# Altium integrated library TI Data Converters Digital to Analog Converter.IntLib: 1533 symbols (part 93 of 99)
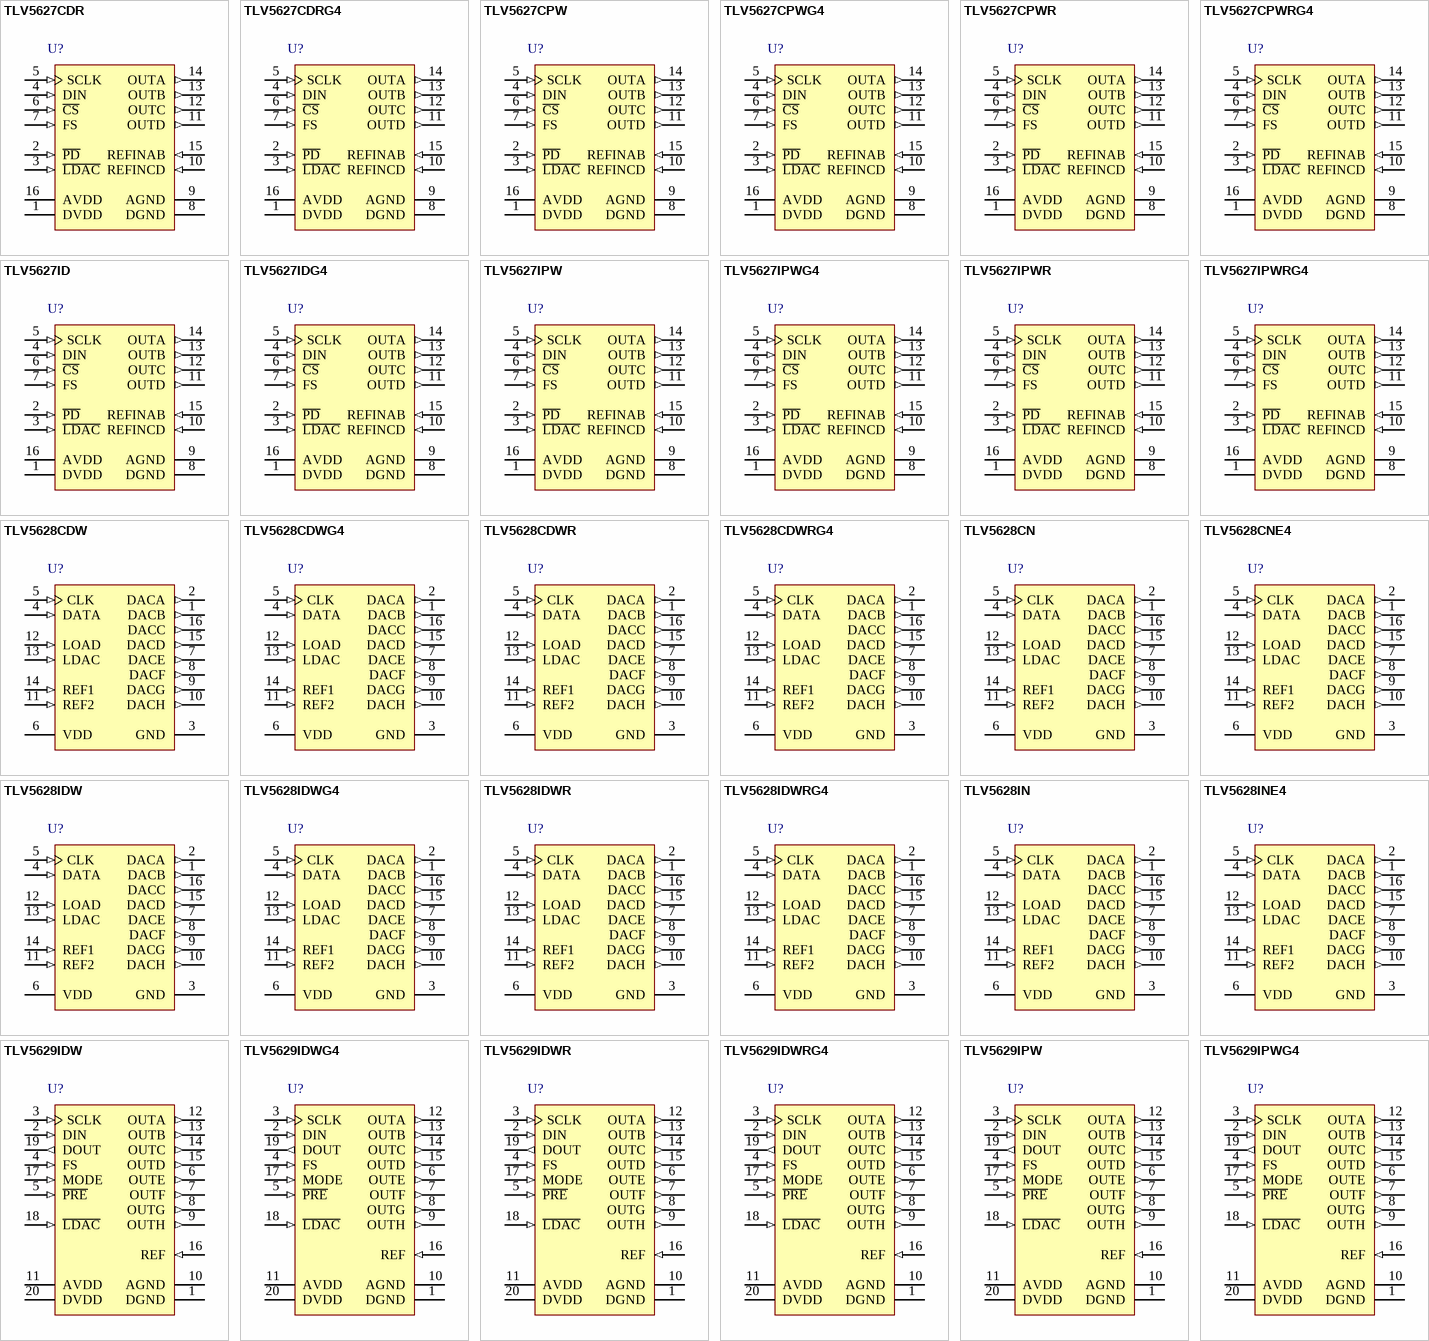
[diagram p165: symbols TLV5627CDR to TLV5629IPWG4]

## TLV5628IDW
designator U?
8-Bit, 10 us Octal DAC, Serial Input, Programmable 1 x or 2 x Output, Low Power, -40 to 85 degC, 16-pin SOIC (DW16), Green (RoHS & no Sb/Br); Manufacturer: Texas Instruments; PartNumber: TLV5628IDW; DAC Channels: 8; DNL(Max)(+/-LSB): 0.9; INL(Max)(+/-LSB): 1; Interface: Serial SPI; Power Consumption(Typ)(mW): 12; Settling Time(us): 10; SubFamily: Precision DAC (=<10MSPS); DatasheetVersion: SLAS108A; PackageVersion: 4040000-2/G, 01/2011; PackageReference: DW16; PackageDescription: 16-Pin Plastic Small Outline, Body 10.30 x 7.50 mm, Pitch 1.27 mm; Supplier 1: Digi-Key; Supplier Part Number 1: 296-3061-5-ND; Supplier 2: Newark; Supplier Part Number 2: 76C8967; Supplier 3: Mouser; Supplier Part Number 3: 595-TLV5628IDW; Eco-Plan: Green (RoHS & no Sb/Br); Resolution(Bits): 8; Mounting Technology: Surface Mount; Code_JEDEC: MS-013; ComponentLink1Description: Manufacturer URL; ComponentLink1URL: http://www.ti.com/; ComponentLink2Description: Datasheet; ComponentLink2URL: http://www.ti.com/general/docs/lit/getliterature.tsp?genericPartNumber=TLV5628&fileType=pdf; ComponentLink3Description: Package Specification; ComponentLink3URL: http://www.ti.com/litv/pdf/msoi003g
footprint TI-DW16_N (SOIC, 16-Leads, Body 10.3x7.5mm, Pitch 1.27mm, IPC Medium Density)
footprint TI-DW16_L (SOIC, 16-Leads, Body 10.3x7.5mm, Pitch 1.27mm, IPC High Density)
footprint TI-DW16_M (SOIC, 16-Leads, Body 10.3x7.5mm, Pitch 1.27mm, IPC Low Density)
pins: 1 DACB (out) "DACB analog output", 2 DACA (out) "DACA analog output", 3 GND (power) "Ground return and reference terminal", 4 DATA (in) "Serial-interface digital data input", 5 CLK (in) "Serial-interface clock, data enters on the negative edge", 6 VDD (power) "Positive supply voltage", 7 DACE (out) "DACE analog output", 8 DACF (out) "DACF analog output", 9 DACG (out) "DACG analog output", 10 DACH (out) "DACH analog output", 11 REF2 (in) "Reference voltage input to DACB", 12 LOAD (in) "Serial-interface load control", 13 LDAC (in) "DAC-update latch control", 14 REF1 (in) "Reference voltage input to DACA", 15 DACD (out) "DACD analog output", 16 DACC (out) "DACC analog output"

## TLV5628IDWG4
designator U?
8-Bit, 10 us Octal DAC, Serial Input, Programmable 1 x or 2 x Output, Low Power, -40 to 85 degC, 16-pin SOIC (DW16), Green (RoHS & no Sb/Br); Manufacturer: Texas Instruments; PartNumber: TLV5628IDWG4; DAC Channels: 8; DNL(Max)(+/-LSB): 0.9; INL(Max)(+/-LSB): 1; Interface: Serial SPI; Power Consumption(Typ)(mW): 12; Settling Time(us): 10; SubFamily: Precision DAC (=<10MSPS); DatasheetVersion: SLAS108A; PackageVersion: 4040000-2/G, 01/2011; PackageReference: DW16; PackageDescription: 16-Pin Plastic Small Outline, Body 10.30 x 7.50 mm, Pitch 1.27 mm; Supplier 1: Digi-Key; Supplier Part Number 1: TLV5628IDWG4-ND; Supplier 2: Mouser; Supplier Part Number 2: 595-TLV5628IDWG4; Eco-Plan: Green (RoHS & no Sb/Br); Resolution(Bits): 8; Mounting Technology: Surface Mount; Code_JEDEC: MS-013; ComponentLink1Description: Manufacturer URL; ComponentLink1URL: http://www.ti.com/; ComponentLink2Description: Datasheet; ComponentLink2URL: http://www.ti.com/general/docs/lit/getliterature.tsp?genericPartNumber=TLV5628&fileType=pdf; ComponentLink3Description: Package Specification; ComponentLink3URL: http://www.ti.com/litv/pdf/msoi003g
footprint TI-DW16_N (SOIC, 16-Leads, Body 10.3x7.5mm, Pitch 1.27mm, IPC Medium Density)
footprint TI-DW16_L (SOIC, 16-Leads, Body 10.3x7.5mm, Pitch 1.27mm, IPC High Density)
footprint TI-DW16_M (SOIC, 16-Leads, Body 10.3x7.5mm, Pitch 1.27mm, IPC Low Density)
pins: 1 DACB (out) "DACB analog output", 2 DACA (out) "DACA analog output", 3 GND (power) "Ground return and reference terminal", 4 DATA (in) "Serial-interface digital data input", 5 CLK (in) "Serial-interface clock, data enters on the negative edge", 6 VDD (power) "Positive supply voltage", 7 DACE (out) "DACE analog output", 8 DACF (out) "DACF analog output", 9 DACG (out) "DACG analog output", 10 DACH (out) "DACH analog output", 11 REF2 (in) "Reference voltage input to DACB", 12 LOAD (in) "Serial-interface load control", 13 LDAC (in) "DAC-update latch control", 14 REF1 (in) "Reference voltage input to DACA", 15 DACD (out) "DACD analog output", 16 DACC (out) "DACC analog output"

## TLV5628IDWR
designator U?
8-Bit, 10 us Octal DAC, Serial Input, Programmable 1 x or 2 x Output, Low Power, -40 to 85 degC, 16-pin SOIC (DW16), Green (RoHS & no Sb/Br); Manufacturer: Texas Instruments; PartNumber: TLV5628IDWR; DAC Channels: 8; DNL(Max)(+/-LSB): 0.9; INL(Max)(+/-LSB): 1; Interface: Serial SPI; Power Consumption(Typ)(mW): 12; Settling Time(us): 10; SubFamily: Precision DAC (=<10MSPS); DatasheetVersion: SLAS108A; PackageVersion: 4040000-2/G, 01/2011; PackageReference: DW16; PackageDescription: 16-Pin Plastic Small Outline, Body 10.30 x 7.50 mm, Pitch 1.27 mm; Supplier 1: Digi-Key; Supplier Part Number 1: TLV5628IDWR-ND; Supplier 2: Mouser; Supplier Part Number 2: 595-TLV5628IDWR; Eco-Plan: Green (RoHS & no Sb/Br); Resolution(Bits): 8; Mounting Technology: Surface Mount; Code_JEDEC: MS-013; ComponentLink1Description: Manufacturer URL; ComponentLink1URL: http://www.ti.com/; ComponentLink2Description: Datasheet; ComponentLink2URL: http://www.ti.com/general/docs/lit/getliterature.tsp?genericPartNumber=TLV5628&fileType=pdf; ComponentLink3Description: Package Specification; ComponentLink3URL: http://www.ti.com/litv/pdf/msoi003g
footprint TI-DW16_N (SOIC, 16-Leads, Body 10.3x7.5mm, Pitch 1.27mm, IPC Medium Density)
footprint TI-DW16_L (SOIC, 16-Leads, Body 10.3x7.5mm, Pitch 1.27mm, IPC High Density)
footprint TI-DW16_M (SOIC, 16-Leads, Body 10.3x7.5mm, Pitch 1.27mm, IPC Low Density)
pins: 1 DACB (out) "DACB analog output", 2 DACA (out) "DACA analog output", 3 GND (power) "Ground return and reference terminal", 4 DATA (in) "Serial-interface digital data input", 5 CLK (in) "Serial-interface clock, data enters on the negative edge", 6 VDD (power) "Positive supply voltage", 7 DACE (out) "DACE analog output", 8 DACF (out) "DACF analog output", 9 DACG (out) "DACG analog output", 10 DACH (out) "DACH analog output", 11 REF2 (in) "Reference voltage input to DACB", 12 LOAD (in) "Serial-interface load control", 13 LDAC (in) "DAC-update latch control", 14 REF1 (in) "Reference voltage input to DACA", 15 DACD (out) "DACD analog output", 16 DACC (out) "DACC analog output"

## TLV5628IDWRG4
designator U?
8-Bit, 10 us Octal DAC, Serial Input, Programmable 1 x or 2 x Output, Low Power, -40 to 85 degC, 16-pin SOIC (DW16), Green (RoHS & no Sb/Br); Manufacturer: Texas Instruments; PartNumber: TLV5628IDWRG4; DAC Channels: 8; DNL(Max)(+/-LSB): 0.9; INL(Max)(+/-LSB): 1; Interface: Serial SPI; Power Consumption(Typ)(mW): 12; Settling Time(us): 10; SubFamily: Precision DAC (=<10MSPS); DatasheetVersion: SLAS108A; PackageVersion: 4040000-2/G, 01/2011; PackageReference: DW16; PackageDescription: 16-Pin Plastic Small Outline, Body 10.30 x 7.50 mm, Pitch 1.27 mm; Supplier 1: Digi-Key; Supplier Part Number 1: TLV5628IDWRG4-ND; Supplier 2: Mouser; Supplier Part Number 2: 595-TLV5628IDWRG4; Eco-Plan: Green (RoHS & no Sb/Br); Resolution(Bits): 8; Mounting Technology: Surface Mount; Code_JEDEC: MS-013; ComponentLink1Description: Manufacturer URL; ComponentLink1URL: http://www.ti.com/; ComponentLink2Description: Datasheet; ComponentLink2URL: http://www.ti.com/general/docs/lit/getliterature.tsp?genericPartNumber=TLV5628&fileType=pdf; ComponentLink3Description: Package Specification; ComponentLink3URL: http://www.ti.com/litv/pdf/msoi003g
footprint TI-DW16_N (SOIC, 16-Leads, Body 10.3x7.5mm, Pitch 1.27mm, IPC Medium Density)
footprint TI-DW16_L (SOIC, 16-Leads, Body 10.3x7.5mm, Pitch 1.27mm, IPC High Density)
footprint TI-DW16_M (SOIC, 16-Leads, Body 10.3x7.5mm, Pitch 1.27mm, IPC Low Density)
pins: 1 DACB (out) "DACB analog output", 2 DACA (out) "DACA analog output", 3 GND (power) "Ground return and reference terminal", 4 DATA (in) "Serial-interface digital data input", 5 CLK (in) "Serial-interface clock, data enters on the negative edge", 6 VDD (power) "Positive supply voltage", 7 DACE (out) "DACE analog output", 8 DACF (out) "DACF analog output", 9 DACG (out) "DACG analog output", 10 DACH (out) "DACH analog output", 11 REF2 (in) "Reference voltage input to DACB", 12 LOAD (in) "Serial-interface load control", 13 LDAC (in) "DAC-update latch control", 14 REF1 (in) "Reference voltage input to DACA", 15 DACD (out) "DACD analog output", 16 DACC (out) "DACC analog output"

## TLV5628IN
designator U?
8-Bit, 10 us Octal DAC, Serial Input, Programmable 1 x or 2 x Output, Low Power, -40 to 85 degC, 16-pin DIP (N16), Pb-Free (RoHS); Manufacturer: Texas Instruments; PartNumber: TLV5628IN; DAC Channels: 8; DNL(Max)(+/-LSB): 0.9; INL(Max)(+/-LSB): 1; Interface: Serial SPI; Power Consumption(Typ)(mW): 12; Settling Time(us): 10; SubFamily: Precision DAC (=<10MSPS); DatasheetVersion: SLAS108A; PackageVersion: 4040049/E, 12/2002; PackageReference: N16; PackageDescription: 16-Pin Plastic In-Line, Body 19.305 x 6.35 mm, Pitch 2.54 mm; Supplier 1: Digi-Key; Supplier Part Number 1: 296-3062-5-ND; Supplier 2: Mouser; Supplier Part Number 2: 595-TLV5628IN; Eco-Plan: Pb-Free (RoHS); Resolution(Bits): 8; Mounting Technology: Through Hole; Code_JEDEC: MS-001; ComponentLink1Description: Manufacturer URL; ComponentLink1URL: http://www.ti.com/; ComponentLink2Description: Datasheet; ComponentLink2URL: http://www.ti.com/general/docs/lit/getliterature.tsp?genericPartNumber=TLV5628&fileType=pdf; ComponentLink3Description: Package Specification; ComponentLink3URL: http://www.ti.com/litv/pdf/mpdi002c
footprint TI-N16 (DIP, 16-Leads, Body 19.305x6.35mm, Pitch 2.54mm)
pins: 1 DACB (out) "DACB analog output", 2 DACA (out) "DACA analog output", 3 GND (power) "Ground return and reference terminal", 4 DATA (in) "Serial-interface digital data input", 5 CLK (in) "Serial-interface clock, data enters on the negative edge", 6 VDD (power) "Positive supply voltage", 7 DACE (out) "DACE analog output", 8 DACF (out) "DACF analog output", 9 DACG (out) "DACG analog output", 10 DACH (out) "DACH analog output", 11 REF2 (in) "Reference voltage input to DACB", 12 LOAD (in) "Serial-interface load control", 13 LDAC (in) "DAC-update latch control", 14 REF1 (in) "Reference voltage input to DACA", 15 DACD (out) "DACD analog output", 16 DACC (out) "DACC analog output"

## TLV5628INE4
designator U?
8-Bit, 10 us Octal DAC, Serial Input, Programmable 1 x or 2 x Output, Low Power, -40 to 85 degC, 16-pin DIP (N16), Pb-Free (RoHS); Manufacturer: Texas Instruments; PartNumber: TLV5628INE4; DAC Channels: 8; DNL(Max)(+/-LSB): 0.9; INL(Max)(+/-LSB): 1; Interface: Serial SPI; Power Consumption(Typ)(mW): 12; Settling Time(us): 10; SubFamily: Precision DAC (=<10MSPS); DatasheetVersion: SLAS108A; PackageVersion: 4040049/E, 12/2002; PackageReference: N16; PackageDescription: 16-Pin Plastic In-Line, Body 19.305 x 6.35 mm, Pitch 2.54 mm; Supplier 1: Digi-Key; Supplier Part Number 1: TLV5628INE4-ND; Supplier 2: Mouser; Supplier Part Number 2: 595-TLV5628INE4; Eco-Plan: Pb-Free (RoHS); Resolution(Bits): 8; Mounting Technology: Through Hole; Code_JEDEC: MS-001; ComponentLink1Description: Manufacturer URL; ComponentLink1URL: http://www.ti.com/; ComponentLink2Description: Datasheet; ComponentLink2URL: http://www.ti.com/general/docs/lit/getliterature.tsp?genericPartNumber=TLV5628&fileType=pdf; ComponentLink3Description: Package Specification; ComponentLink3URL: http://www.ti.com/litv/pdf/mpdi002c
footprint TI-N16 (DIP, 16-Leads, Body 19.305x6.35mm, Pitch 2.54mm)
pins: 1 DACB (out) "DACB analog output", 2 DACA (out) "DACA analog output", 3 GND (power) "Ground return and reference terminal", 4 DATA (in) "Serial-interface digital data input", 5 CLK (in) "Serial-interface clock, data enters on the negative edge", 6 VDD (power) "Positive supply voltage", 7 DACE (out) "DACE analog output", 8 DACF (out) "DACF analog output", 9 DACG (out) "DACG analog output", 10 DACH (out) "DACH analog output", 11 REF2 (in) "Reference voltage input to DACB", 12 LOAD (in) "Serial-interface load control", 13 LDAC (in) "DAC-update latch control", 14 REF1 (in) "Reference voltage input to DACA", 15 DACD (out) "DACD analog output", 16 DACC (out) "DACC analog output"

## TLV5629IDW
designator U?
8-Bit 8-Channel DAC, Serial Input, Programmable Settling Time / Power Consumption, Low Power, Power Down, -40 to 85 degC, 20-pin SOIC (DW20), Green (RoHS & no Sb/Br); Manufacturer: Texas Instruments; PartNumber: TLV5629IDW; DAC Channels: 8; DNL(Max)(+/-LSB): 1; Interface: Serial SPI; Power Consumption(Typ)(mW): 18; SubFamily: Precision DAC (=<10MSPS); DatasheetVersion: SLAS268G; PackageVersion: 4040000-4/G, 01/2011; PackageReference: DW20; PackageDescription: 20-Pin Plastic Small Outline, Body 12.8 x 7.5 mm, Pitch 1.27 mm; Supplier 1: Digi-Key; Supplier Part Number 1: 296-3063-5-ND; Supplier 2: Newark; Supplier Part Number 2: 27C4857; Supplier 3: Mouser; Supplier Part Number 3: 595-TLV5629IDW; Eco-Plan: Green (RoHS & no Sb/Br); INL(Max)(+/-LSB): 1; Resolution(Bits): 8; Settling Time(us): 1; Mounting Technology: Surface Mount; Code_JEDEC: MO-013; ComponentLink1Description: Manufacturer URL; ComponentLink1URL: http://www.ti.com/; ComponentLink2Description: Datasheet; ComponentLink2URL: http://www.ti.com/general/docs/lit/getliterature.tsp?genericPartNumber=TLV5629&fileType=pdf; ComponentLink3Description: Package Specification; ComponentLink3URL: http://www.ti.com/lit/ml/mpds173a/mpds173a.pdf
footprint TI-DW20_N (SOIC, 20-Leads, Body 12.8x7.5mm, Pitch 1.27mm, IPC Medium Density)
footprint TI-DW20_L (SOIC, 20-Leads, Body 12.8x7.5mm, Pitch 1.27mm, IPC High Density)
footprint TI-DW20_M (SOIC, 20-Leads, Body 12.8x7.5mm, Pitch 1.27mm, IPC Low Density)
pins: 1 DGND (power) "Digital ground", 2 DIN (in) "Digital serial data input", 3 SCLK (in) "Serial clock input", 4 FS (in) "Frame sync input", 5 ~{PRE} (in) "Preset input", 6 OUTE (out) "DAC output E", 7 OUTF (out) "DAC output F", 8 OUTG (out) "DAC output G", 9 OUTH (out) "DAC output H", 10 AGND (power) "Analog ground", 11 AVDD (power) "Analog power supply", 12 OUTA (out) "DAC output A", 13 OUTB (out) "DAC output B", 14 OUTC (out) "DAC output C", 15 OUTD (out) "DAC output D", 16 REF (in) "Voltage reference input", 17 MODE (in) "DSP/uC mode pin. High = uC mode, NC = DSP mode.", 18 ~{LDAC} (in) "Load DAC. The DAC outputs are only updated, if this signal is low. It is an LDAC asynchronous input.", 19 DOUT (out) "Digital serial data output", 20 DVDD (power) "Digital power supply"

## TLV5629IDWG4
designator U?
8-Bit 8-Channel DAC, Serial Input, Programmable Settling Time / Power Consumption, Low Power, Power Down, -40 to 85 degC, 20-pin SOIC (DW20), Green (RoHS & no Sb/Br); Manufacturer: Texas Instruments; PartNumber: TLV5629IDWG4; DAC Channels: 8; DNL(Max)(+/-LSB): 1; Interface: Serial SPI; Power Consumption(Typ)(mW): 18; SubFamily: Precision DAC (=<10MSPS); DatasheetVersion: SLAS268G; PackageVersion: 4040000-4/G, 01/2011; PackageReference: DW20; PackageDescription: 20-Pin Plastic Small Outline, Body 12.8 x 7.5 mm, Pitch 1.27 mm; Supplier 1: Digi-Key; Supplier Part Number 1: TLV5629IDWG4-ND; Supplier 2: Mouser; Supplier Part Number 2: 595-TLV5629IDWG4; Eco-Plan: Green (RoHS & no Sb/Br); INL(Max)(+/-LSB): 1; Resolution(Bits): 8; Settling Time(us): 1; Mounting Technology: Surface Mount; Code_JEDEC: MO-013; ComponentLink1Description: Manufacturer URL; ComponentLink1URL: http://www.ti.com/; ComponentLink2Description: Datasheet; ComponentLink2URL: http://www.ti.com/general/docs/lit/getliterature.tsp?genericPartNumber=TLV5629&fileType=pdf; ComponentLink3Description: Package Specification; ComponentLink3URL: http://www.ti.com/lit/ml/mpds173a/mpds173a.pdf
footprint TI-DW20_N (SOIC, 20-Leads, Body 12.8x7.5mm, Pitch 1.27mm, IPC Medium Density)
footprint TI-DW20_L (SOIC, 20-Leads, Body 12.8x7.5mm, Pitch 1.27mm, IPC High Density)
footprint TI-DW20_M (SOIC, 20-Leads, Body 12.8x7.5mm, Pitch 1.27mm, IPC Low Density)
pins: 1 DGND (power) "Digital ground", 2 DIN (in) "Digital serial data input", 3 SCLK (in) "Serial clock input", 4 FS (in) "Frame sync input", 5 ~{PRE} (in) "Preset input", 6 OUTE (out) "DAC output E", 7 OUTF (out) "DAC output F", 8 OUTG (out) "DAC output G", 9 OUTH (out) "DAC output H", 10 AGND (power) "Analog ground", 11 AVDD (power) "Analog power supply", 12 OUTA (out) "DAC output A", 13 OUTB (out) "DAC output B", 14 OUTC (out) "DAC output C", 15 OUTD (out) "DAC output D", 16 REF (in) "Voltage reference input", 17 MODE (in) "DSP/uC mode pin. High = uC mode, NC = DSP mode.", 18 ~{LDAC} (in) "Load DAC. The DAC outputs are only updated, if this signal is low. It is an LDAC asynchronous input.", 19 DOUT (out) "Digital serial data output", 20 DVDD (power) "Digital power supply"

## TLV5629IDWR
designator U?
8-Bit 8-Channel DAC, Serial Input, Programmable Settling Time / Power Consumption, Low Power, Power Down, -40 to 85 degC, 20-pin SOIC (DW20), Green (RoHS & no Sb/Br); Manufacturer: Texas Instruments; PartNumber: TLV5629IDWR; DAC Channels: 8; DNL(Max)(+/-LSB): 1; Interface: Serial SPI; Power Consumption(Typ)(mW): 18; SubFamily: Precision DAC (=<10MSPS); DatasheetVersion: SLAS268G; PackageVersion: 4040000-4/G, 01/2011; PackageReference: DW20; PackageDescription: 20-Pin Plastic Small Outline, Body 12.8 x 7.5 mm, Pitch 1.27 mm; Supplier 1: Digi-Key; Supplier Part Number 1: TLV5629IDWR-ND; Supplier 2: Newark; Supplier Part Number 2: 76C8970; Supplier 3: Mouser; Supplier Part Number 3: 595-TLV5629IDWR; Eco-Plan: Green (RoHS & no Sb/Br); INL(Max)(+/-LSB): 1; Resolution(Bits): 8; Settling Time(us): 1; Mounting Technology: Surface Mount; Code_JEDEC: MO-013; ComponentLink1Description: Manufacturer URL; ComponentLink1URL: http://www.ti.com/; ComponentLink2Description: Datasheet; ComponentLink2URL: http://www.ti.com/general/docs/lit/getliterature.tsp?genericPartNumber=TLV5629&fileType=pdf; ComponentLink3Description: Package Specification; ComponentLink3URL: http://www.ti.com/lit/ml/mpds173a/mpds173a.pdf
footprint TI-DW20_N (SOIC, 20-Leads, Body 12.8x7.5mm, Pitch 1.27mm, IPC Medium Density)
footprint TI-DW20_L (SOIC, 20-Leads, Body 12.8x7.5mm, Pitch 1.27mm, IPC High Density)
footprint TI-DW20_M (SOIC, 20-Leads, Body 12.8x7.5mm, Pitch 1.27mm, IPC Low Density)
pins: 1 DGND (power) "Digital ground", 2 DIN (in) "Digital serial data input", 3 SCLK (in) "Serial clock input", 4 FS (in) "Frame sync input", 5 ~{PRE} (in) "Preset input", 6 OUTE (out) "DAC output E", 7 OUTF (out) "DAC output F", 8 OUTG (out) "DAC output G", 9 OUTH (out) "DAC output H", 10 AGND (power) "Analog ground", 11 AVDD (power) "Analog power supply", 12 OUTA (out) "DAC output A", 13 OUTB (out) "DAC output B", 14 OUTC (out) "DAC output C", 15 OUTD (out) "DAC output D", 16 REF (in) "Voltage reference input", 17 MODE (in) "DSP/uC mode pin. High = uC mode, NC = DSP mode.", 18 ~{LDAC} (in) "Load DAC. The DAC outputs are only updated, if this signal is low. It is an LDAC asynchronous input.", 19 DOUT (out) "Digital serial data output", 20 DVDD (power) "Digital power supply"

## TLV5629IDWRG4
designator U?
8-Bit 8-Channel DAC, Serial Input, Programmable Settling Time / Power Consumption, Low Power, Power Down, -40 to 85 degC, 20-pin SOIC (DW20), Green (RoHS & no Sb/Br); Manufacturer: Texas Instruments; PartNumber: TLV5629IDWRG4; DAC Channels: 8; DNL(Max)(+/-LSB): 1; Interface: Serial SPI; Power Consumption(Typ)(mW): 48; SubFamily: Precision DAC (=<10MSPS); DatasheetVersion: SLAS268G; PackageVersion: 4040000-4/G, 01/2011; PackageReference: DW20; PackageDescription: 20-Pin Plastic Small Outline, Body 12.8 x 7.5 mm, Pitch 1.27 mm; Supplier 1: Digi-Key; Supplier Part Number 1: TLV5629IDWRG4-ND; Supplier 2: Mouser; Supplier Part Number 2: 595-TLV5629IDWRG4; Eco-Plan: Green (RoHS & no Sb/Br); INL(Max)(+/-LSB): 1; Resolution(Bits): 8; Settling Time(us): 1; Mounting Technology: Surface Mount; Code_JEDEC: MO-013; ComponentLink1Description: Manufacturer URL; ComponentLink1URL: http://www.ti.com/; ComponentLink2Description: Datasheet; ComponentLink2URL: http://www.ti.com/general/docs/lit/getliterature.tsp?genericPartNumber=TLV5629&fileType=pdf; ComponentLink3Description: Package Specification; ComponentLink3URL: http://www.ti.com/lit/ml/mpds173a/mpds173a.pdf
footprint TI-DW20_N (SOIC, 20-Leads, Body 12.8x7.5mm, Pitch 1.27mm, IPC Medium Density)
footprint TI-DW20_L (SOIC, 20-Leads, Body 12.8x7.5mm, Pitch 1.27mm, IPC High Density)
footprint TI-DW20_M (SOIC, 20-Leads, Body 12.8x7.5mm, Pitch 1.27mm, IPC Low Density)
pins: 1 DGND (power) "Digital ground", 2 DIN (in) "Digital serial data input", 3 SCLK (in) "Serial clock input", 4 FS (in) "Frame sync input", 5 ~{PRE} (in) "Preset input", 6 OUTE (out) "DAC output E", 7 OUTF (out) "DAC output F", 8 OUTG (out) "DAC output G", 9 OUTH (out) "DAC output H", 10 AGND (power) "Analog ground", 11 AVDD (power) "Analog power supply", 12 OUTA (out) "DAC output A", 13 OUTB (out) "DAC output B", 14 OUTC (out) "DAC output C", 15 OUTD (out) "DAC output D", 16 REF (in) "Voltage reference input", 17 MODE (in) "DSP/uC mode pin. High = uC mode, NC = DSP mode.", 18 ~{LDAC} (in) "Load DAC. The DAC outputs are only updated, if this signal is low. It is an LDAC asynchronous input.", 19 DOUT (out) "Digital serial data output", 20 DVDD (power) "Digital power supply"

## TLV5629IPW
designator U?
8-Bit 8-Channel DAC, Serial Input, Programmable Settling Time / Power Consumption, Low Power, Power Down, -40 to 85 degC, 20-pin SOP (PW20), Green (RoHS & no Sb/Br); Manufacturer: Texas Instruments; PartNumber: TLV5629IPW; DAC Channels: 8; DNL(Max)(+/-LSB): 1; Interface: Serial SPI; Power Consumption(Typ)(mW): 18; SubFamily: Precision DAC (=<10MSPS); DatasheetVersion: SLAS268G; PackageVersion: 4040064-5/G, 02/2011; PackageReference: PW20; PackageDescription: 20-Pin Plastic Small Outline, Body 6.5 x 4.4 mm, Pitch 0.65 mm; Supplier 1: Digi-Key; Supplier Part Number 1: 296-3064-5-ND; Supplier 2: Mouser; Supplier Part Number 2: 595-TLV5629IPW; Eco-Plan: Green (RoHS & no Sb/Br); INL(Max)(+/-LSB): 1; Resolution(Bits): 8; Settling Time(us): 1; Mounting Technology: Surface Mount; Code_JEDEC: MO-153; ComponentLink1Description: Manufacturer URL; ComponentLink1URL: http://www.ti.com/; ComponentLink2Description: Datasheet; ComponentLink2URL: http://www.ti.com/general/docs/lit/getliterature.tsp?genericPartNumber=TLV5629&fileType=pdf; ComponentLink3Description: Package Specification; ComponentLink3URL: http://www.ti.com.cn/cn/lit/ml/mpds362/mpds362.pdf
footprint TI-PW20_N (SOP, 20-Leads, Body 6.5x4.4mm, Pitch 0.65mm, IPC Medium Density)
footprint TI-PW20_L (SOP, 20-Leads, Body 6.5x4.4mm, Pitch 0.65mm, IPC High Density)
footprint TI-PW20_M (SOP, 20-Leads, Body 6.5x4.4mm, Pitch 0.65mm, IPC Low Density)
pins: 1 DGND (power) "Digital ground", 2 DIN (in) "Digital serial data input", 3 SCLK (in) "Serial clock input", 4 FS (in) "Frame sync input", 5 ~{PRE} (in) "Preset input", 6 OUTE (out) "DAC output E", 7 OUTF (out) "DAC output F", 8 OUTG (out) "DAC output G", 9 OUTH (out) "DAC output H", 10 AGND (power) "Analog ground", 11 AVDD (power) "Analog power supply", 12 OUTA (out) "DAC output A", 13 OUTB (out) "DAC output B", 14 OUTC (out) "DAC output C", 15 OUTD (out) "DAC output D", 16 REF (in) "Voltage reference input", 17 MODE (in) "DSP/uC mode pin. High = uC mode, NC = DSP mode.", 18 ~{LDAC} (in) "Load DAC. The DAC outputs are only updated, if this signal is low. It is an LDAC asynchronous input.", 19 DOUT (out) "Digital serial data output", 20 DVDD (power) "Digital power supply"

## TLV5629IPWG4
designator U?
8-Bit 8-Channel DAC, Serial Input, Programmable Settling Time / Power Consumption, Low Power, Power Down, -40 to 85 degC, 20-pin SOP (PW20), Green (RoHS & no Sb/Br); Manufacturer: Texas Instruments; PartNumber: TLV5629IPWG4; DAC Channels: 8; DNL(Max)(+/-LSB): 1; Interface: Serial SPI; Power Consumption(Typ)(mW): 18; SubFamily: Precision DAC (=<10MSPS); DatasheetVersion: SLAS268G; PackageVersion: 4040064-5/G, 02/2011; PackageReference: PW20; PackageDescription: 20-Pin Plastic Small Outline, Body 6.5 x 4.4 mm, Pitch 0.65 mm; Supplier 1: Digi-Key; Supplier Part Number 1: TLV5629IPWG4-ND; Supplier 2: Mouser; Supplier Part Number 2: 595-TLV5629IPWG4; Eco-Plan: Green (RoHS & no Sb/Br); INL(Max)(+/-LSB): 1; Resolution(Bits): 8; Settling Time(us): 1; Mounting Technology: Surface Mount; Code_JEDEC: MO-153; ComponentLink1Description: Manufacturer URL; ComponentLink1URL: http://www.ti.com/; ComponentLink2Description: Datasheet; ComponentLink2URL: http://www.ti.com/general/docs/lit/getliterature.tsp?genericPartNumber=TLV5629&fileType=pdf; ComponentLink3Description: Package Specification; ComponentLink3URL: http://www.ti.com.cn/cn/lit/ml/mpds362/mpds362.pdf
footprint TI-PW20_N (SOP, 20-Leads, Body 6.5x4.4mm, Pitch 0.65mm, IPC Medium Density)
footprint TI-PW20_L (SOP, 20-Leads, Body 6.5x4.4mm, Pitch 0.65mm, IPC High Density)
footprint TI-PW20_M (SOP, 20-Leads, Body 6.5x4.4mm, Pitch 0.65mm, IPC Low Density)
pins: 1 DGND (power) "Digital ground", 2 DIN (in) "Digital serial data input", 3 SCLK (in) "Serial clock input", 4 FS (in) "Frame sync input", 5 ~{PRE} (in) "Preset input", 6 OUTE (out) "DAC output E", 7 OUTF (out) "DAC output F", 8 OUTG (out) "DAC output G", 9 OUTH (out) "DAC output H", 10 AGND (power) "Analog ground", 11 AVDD (power) "Analog power supply", 12 OUTA (out) "DAC output A", 13 OUTB (out) "DAC output B", 14 OUTC (out) "DAC output C", 15 OUTD (out) "DAC output D", 16 REF (in) "Voltage reference input", 17 MODE (in) "DSP/uC mode pin. High = uC mode, NC = DSP mode.", 18 ~{LDAC} (in) "Load DAC. The DAC outputs are only updated, if this signal is low. It is an LDAC asynchronous input.", 19 DOUT (out) "Digital serial data output", 20 DVDD (power) "Digital power supply"

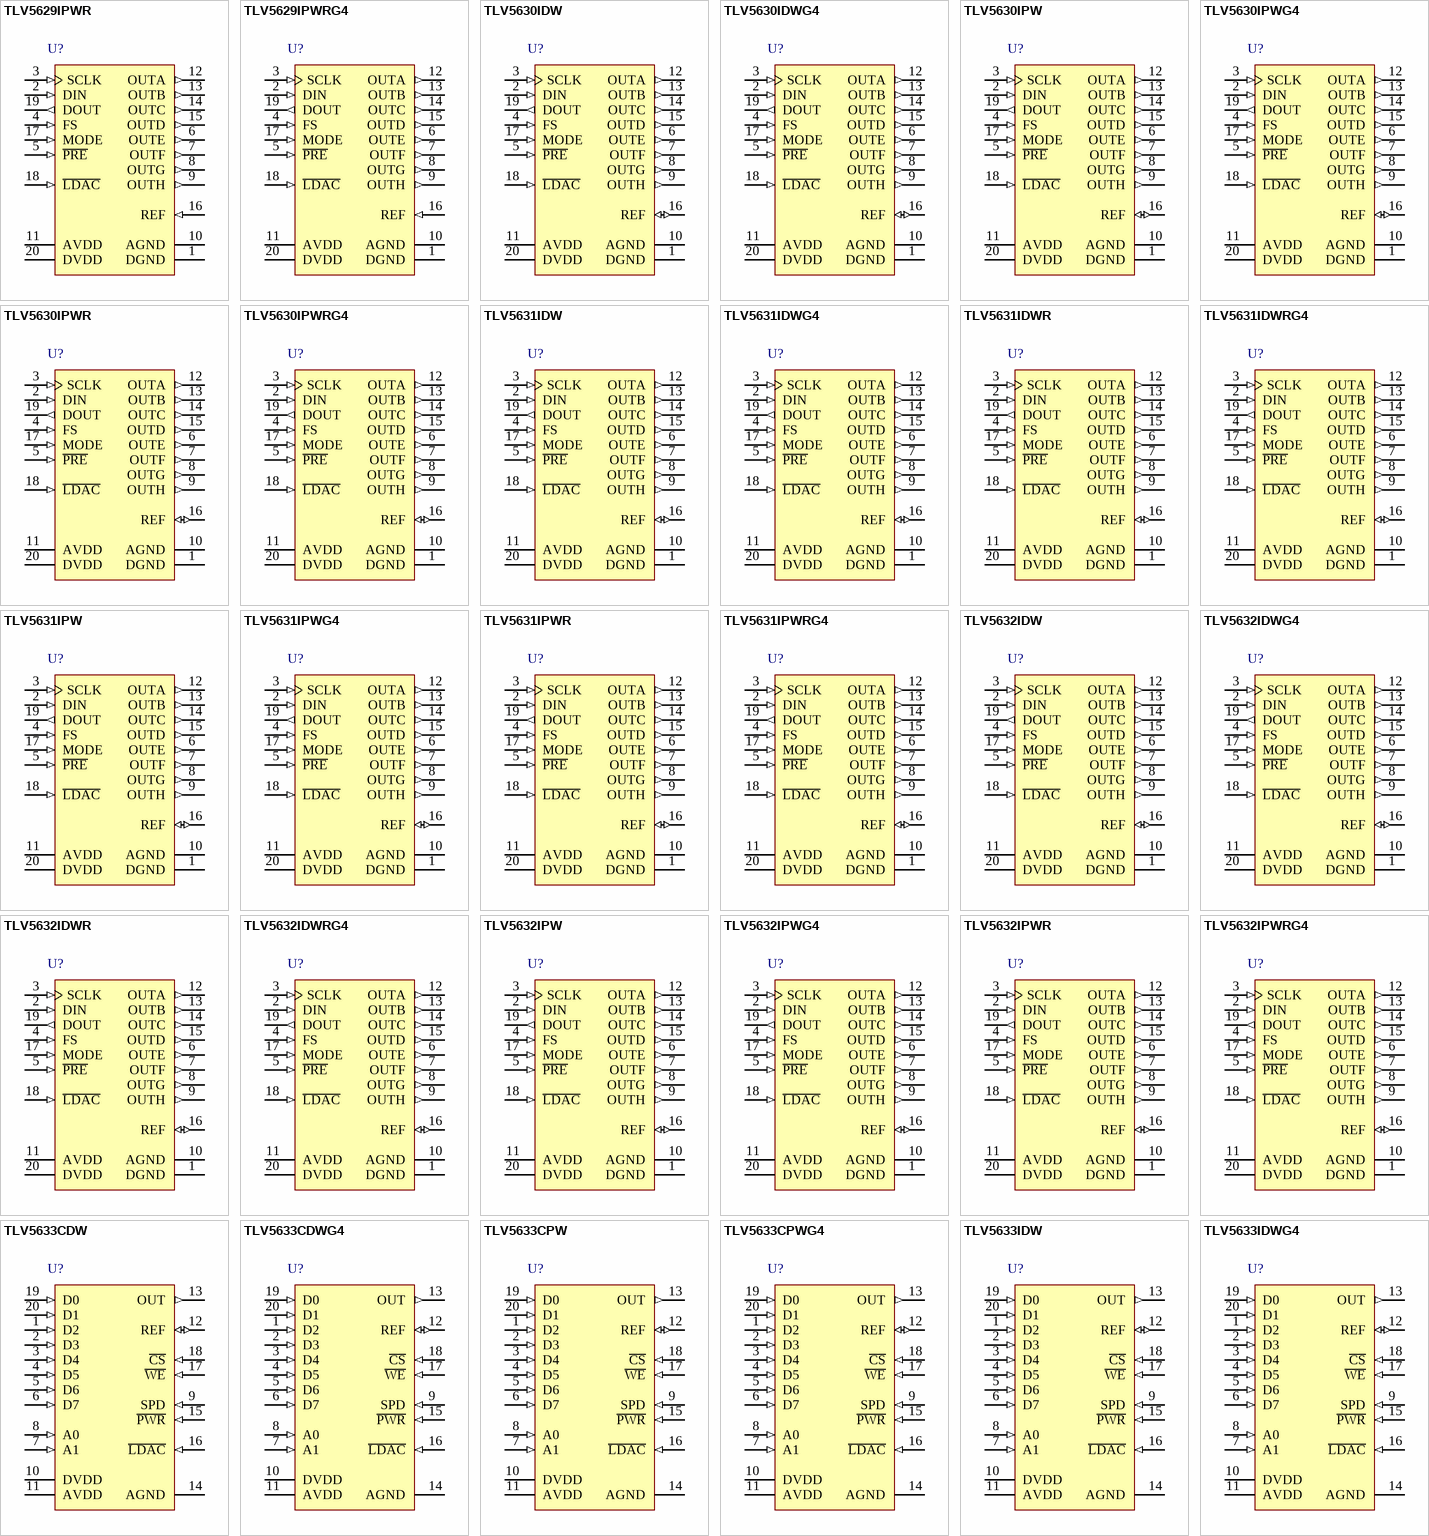
[diagram p69: symbols TLV5629IPWR to TLV5633IDWG4]

## TLV5629IPWR
designator U?
8-Bit 8-Channel DAC, Serial Input, Programmable Settling Time / Power Consumption, Low Power, Power Down, -40 to 85 degC, 20-pin SOP (PW20), Green (RoHS & no Sb/Br); Manufacturer: Texas Instruments; PartNumber: TLV5629IPWR; DAC Channels: 8; DNL(Max)(+/-LSB): 1; Interface: Serial SPI; Power Consumption(Typ)(mW): 18; SubFamily: Precision DAC (=<10MSPS); DatasheetVersion: SLAS268G; PackageVersion: 4040064-5/G, 02/2011; PackageReference: PW20; PackageDescription: 20-Pin Plastic Small Outline, Body 6.5 x 4.4 mm, Pitch 0.65 mm; Supplier 1: Digi-Key; Supplier Part Number 1: TLV5629IPWR-ND; Supplier 2: Mouser; Supplier Part Number 2: 595-TLV5629IPWR; Eco-Plan: Green (RoHS & no Sb/Br); INL(Max)(+/-LSB): 1; Resolution(Bits): 8; Settling Time(us): 1; Mounting Technology: Surface Mount; Code_JEDEC: MO-153; ComponentLink1Description: Manufacturer URL; ComponentLink1URL: http://www.ti.com/; ComponentLink2Description: Datasheet; ComponentLink2URL: http://www.ti.com/general/docs/lit/getliterature.tsp?genericPartNumber=TLV5629&fileType=pdf; ComponentLink3Description: Package Specification; ComponentLink3URL: http://www.ti.com.cn/cn/lit/ml/mpds362/mpds362.pdf
footprint TI-PW20_N (SOP, 20-Leads, Body 6.5x4.4mm, Pitch 0.65mm, IPC Medium Density)
footprint TI-PW20_L (SOP, 20-Leads, Body 6.5x4.4mm, Pitch 0.65mm, IPC High Density)
footprint TI-PW20_M (SOP, 20-Leads, Body 6.5x4.4mm, Pitch 0.65mm, IPC Low Density)
pins: 1 DGND (power) "Digital ground", 2 DIN (in) "Digital serial data input", 3 SCLK (in) "Serial clock input", 4 FS (in) "Frame sync input", 5 ~{PRE} (in) "Preset input", 6 OUTE (out) "DAC output E", 7 OUTF (out) "DAC output F", 8 OUTG (out) "DAC output G", 9 OUTH (out) "DAC output H", 10 AGND (power) "Analog ground", 11 AVDD (power) "Analog power supply", 12 OUTA (out) "DAC output A", 13 OUTB (out) "DAC output B", 14 OUTC (out) "DAC output C", 15 OUTD (out) "DAC output D", 16 REF (in) "Voltage reference input", 17 MODE (in) "DSP/uC mode pin. High = uC mode, NC = DSP mode.", 18 ~{LDAC} (in) "Load DAC. The DAC outputs are only updated, if this signal is low. It is an LDAC asynchronous input.", 19 DOUT (out) "Digital serial data output", 20 DVDD (power) "Digital power supply"

## TLV5629IPWRG4
designator U?
8-Bit 8-Channel DAC, Serial Input, Programmable Settling Time / Power Consumption, Low Power, Power Down, -40 to 85 degC, 20-pin SOP (PW20), Green (RoHS & no Sb/Br); Manufacturer: Texas Instruments; PartNumber: TLV5629IPWRG4; DAC Channels: 8; DNL(Max)(+/-LSB): 1; Interface: Serial SPI; Power Consumption(Typ)(mW): 18; SubFamily: Precision DAC (=<10MSPS); DatasheetVersion: SLAS268G; PackageVersion: 4040064-5/G, 02/2011; PackageReference: PW20; PackageDescription: 20-Pin Plastic Small Outline, Body 6.5 x 4.4 mm, Pitch 0.65 mm; Supplier 1: Digi-Key; Supplier Part Number 1: TLV5629IPWRG4-ND; Supplier 2: Mouser; Supplier Part Number 2: 595-TLV5629IPWRG4; Eco-Plan: Green (RoHS & no Sb/Br); INL(Max)(+/-LSB): 1; Resolution(Bits): 8; Settling Time(us): 1; Mounting Technology: Surface Mount; Code_JEDEC: MO-153; ComponentLink1Description: Manufacturer URL; ComponentLink1URL: http://www.ti.com/; ComponentLink2Description: Datasheet; ComponentLink2URL: http://www.ti.com/general/docs/lit/getliterature.tsp?genericPartNumber=TLV5629&fileType=pdf; ComponentLink3Description: Package Specification; ComponentLink3URL: http://www.ti.com.cn/cn/lit/ml/mpds362/mpds362.pdf
footprint TI-PW20_N (SOP, 20-Leads, Body 6.5x4.4mm, Pitch 0.65mm, IPC Medium Density)
footprint TI-PW20_L (SOP, 20-Leads, Body 6.5x4.4mm, Pitch 0.65mm, IPC High Density)
footprint TI-PW20_M (SOP, 20-Leads, Body 6.5x4.4mm, Pitch 0.65mm, IPC Low Density)
pins: 1 DGND (power) "Digital ground", 2 DIN (in) "Digital serial data input", 3 SCLK (in) "Serial clock input", 4 FS (in) "Frame sync input", 5 ~{PRE} (in) "Preset input", 6 OUTE (out) "DAC output E", 7 OUTF (out) "DAC output F", 8 OUTG (out) "DAC output G", 9 OUTH (out) "DAC output H", 10 AGND (power) "Analog ground", 11 AVDD (power) "Analog power supply", 12 OUTA (out) "DAC output A", 13 OUTB (out) "DAC output B", 14 OUTC (out) "DAC output C", 15 OUTD (out) "DAC output D", 16 REF (in) "Voltage reference input", 17 MODE (in) "DSP/uC mode pin. High = uC mode, NC = DSP mode.", 18 ~{LDAC} (in) "Load DAC. The DAC outputs are only updated, if this signal is low. It is an LDAC asynchronous input.", 19 DOUT (out) "Digital serial data output", 20 DVDD (power) "Digital power supply"

## TLV5630IDW
designator U?
2.7 to 5.5 V 12-Bit 8-Channel Serial DAC with Internal Reference, -40 to 85 degC, 20-pin SOIC (DW20), Green (RoHS & no Sb/Br); Manufacturer: Texas Instruments; PartNumber: TLV5630IDW; DAC Channels: 8; DNL(Max)(+/-LSB): 1; INL(Max)(+/-LSB): 6; Interface: Serial SPI; Power Consumption(Typ)(mW): 48; Resolution(Bits): 12; SubFamily: Precision DAC (=<10MSPS); DatasheetVersion: SLAS269F; PackageVersion: 4040000-4/G, 01/2011; PackageReference: DW20; PackageDescription: 20-Pin Plastic Small Outline, Body 12.8 x 7.5 mm, Pitch 1.27 mm; Supplier 1: Digi-Key; Supplier Part Number 1: 296-3065-5-ND; Supplier 2: Farnell; Supplier Part Number 2: 8455775; Supplier 3: Newark; Supplier Part Number 3: 38K8492; Supplier 4: Newark; Supplier Part Number 4: 27C4859; Supplier 5: Mouser; Supplier Part Number 5: 595-TLV5630IDW; Eco-Plan: Green (RoHS & no Sb/Br); Settling Time(us): 1; Mounting Technology: Surface Mount; Code_JEDEC: MO-013; ComponentLink1Description: Manufacturer URL; ComponentLink1URL: http://www.ti.com/; ComponentLink2Description: Datasheet; ComponentLink2URL: http://www.ti.com/general/docs/lit/getliterature.tsp?genericPartNumber=TLV5630&fileType=pdf; ComponentLink3Description: Package Specification; ComponentLink3URL: http://www.ti.com/lit/ml/mpds173a/mpds173a.pdf
footprint TI-DW20_N (SOIC, 20-Leads, Body 12.8x7.5mm, Pitch 1.27mm, IPC Medium Density)
footprint TI-DW20_L (SOIC, 20-Leads, Body 12.8x7.5mm, Pitch 1.27mm, IPC High Density)
footprint TI-DW20_M (SOIC, 20-Leads, Body 12.8x7.5mm, Pitch 1.27mm, IPC Low Density)
pins: 1 DGND (power) "Digital ground", 2 DIN (in) "Digital serial data input", 3 SCLK (in) "Serial clock input", 4 FS (in) "Frame sync input", 5 ~{PRE} (in) "Preset input", 6 OUTE (out) "DAC output", 7 OUTF (out) "DAC output", 8 OUTG (out) "DAC output", 9 OUTH (out) "DAC output", 10 AGND (power) "Analog ground", 11 AVDD (power) "Analog power supply", 12 OUTA (out) "DAC output", 13 OUTB (out) "DAC output", 14 OUTC (out) "DAC output", 15 OUTD (out) "DAC output", 16 REF (io) "Voltage reference input/output", 17 MODE (in) "DSP/uC mode pin. High = uC mode, NC = DSP mode.", 18 ~{LDAC} (in) "Load DAC. The DAC outputs are only updated, if this signal is low. It is an asynchronous input.", 19 DOUT (out) "Digital serial data output", 20 DVDD (power) "Digital power supply"

## TLV5630IDWG4
designator U?
2.7 to 5.5 V 12-Bit 8-Channel Serial DAC with Internal Reference, -40 to 85 degC, 20-pin SOIC (DW20), Green (RoHS & no Sb/Br); Manufacturer: Texas Instruments; PartNumber: TLV5630IDWG4; DAC Channels: 8; DNL(Max)(+/-LSB): 1; INL(Max)(+/-LSB): 6; Interface: Serial SPI; Power Consumption(Typ)(mW): 48; Resolution(Bits): 12; SubFamily: Precision DAC (=<10MSPS); DatasheetVersion: SLAS269F; PackageVersion: 4040000-4/G, 01/2011; PackageReference: DW20; PackageDescription: 20-Pin Plastic Small Outline, Body 12.8 x 7.5 mm, Pitch 1.27 mm; Supplier 1: Digi-Key; Supplier Part Number 1: TLV5630IDWG4-ND; Supplier 2: Newark; Supplier Part Number 2: 54K1400; Supplier 3: Mouser; Supplier Part Number 3: 595-TLV5630IDWG4; Eco-Plan: Green (RoHS & no Sb/Br); Settling Time(us): 1; Mounting Technology: Surface Mount; Code_JEDEC: MO-013; ComponentLink1Description: Manufacturer URL; ComponentLink1URL: http://www.ti.com/; ComponentLink2Description: Datasheet; ComponentLink2URL: http://www.ti.com/general/docs/lit/getliterature.tsp?genericPartNumber=TLV5630&fileType=pdf; ComponentLink3Description: Package Specification; ComponentLink3URL: http://www.ti.com/lit/ml/mpds173a/mpds173a.pdf
footprint TI-DW20_N (SOIC, 20-Leads, Body 12.8x7.5mm, Pitch 1.27mm, IPC Medium Density)
footprint TI-DW20_L (SOIC, 20-Leads, Body 12.8x7.5mm, Pitch 1.27mm, IPC High Density)
footprint TI-DW20_M (SOIC, 20-Leads, Body 12.8x7.5mm, Pitch 1.27mm, IPC Low Density)
pins: 1 DGND (power) "Digital ground", 2 DIN (in) "Digital serial data input", 3 SCLK (in) "Serial clock input", 4 FS (in) "Frame sync input", 5 ~{PRE} (in) "Preset input", 6 OUTE (out) "DAC output", 7 OUTF (out) "DAC output", 8 OUTG (out) "DAC output", 9 OUTH (out) "DAC output", 10 AGND (power) "Analog ground", 11 AVDD (power) "Analog power supply", 12 OUTA (out) "DAC output", 13 OUTB (out) "DAC output", 14 OUTC (out) "DAC output", 15 OUTD (out) "DAC output", 16 REF (io) "Voltage reference input/output", 17 MODE (in) "DSP/uC mode pin. High = uC mode, NC = DSP mode.", 18 ~{LDAC} (in) "Load DAC. The DAC outputs are only updated, if this signal is low. It is an asynchronous input.", 19 DOUT (out) "Digital serial data output", 20 DVDD (power) "Digital power supply"

## TLV5630IPW
designator U?
2.7 to 5.5 V 12-Bit 8-Channel Serial DAC with Internal Reference, -40 to 85 degC, 20-pin SOP (PW20), Green (RoHS & no Sb/Br); Manufacturer: Texas Instruments; PartNumber: TLV5630IPW; DAC Channels: 8; DNL(Max)(+/-LSB): 1; INL(Max)(+/-LSB): 6; Interface: Serial SPI; Power Consumption(Typ)(mW): 48; Resolution(Bits): 12; SubFamily: Precision DAC (=<10MSPS); DatasheetVersion: SLAS269F; PackageVersion: 4040064-5/G, 02/2011; PackageReference: PW20; PackageDescription: 20-Pin Plastic Small Outline, Body 6.5 x 4.4 mm, Pitch 0.65 mm; Supplier 1: Digi-Key; Supplier Part Number 1: 296-3066-5-ND; Supplier 2: Newark; Supplier Part Number 2: 26C0858; Supplier 3: Mouser; Supplier Part Number 3: 595-TLV5630IPW; Eco-Plan: Green (RoHS & no Sb/Br); Settling Time(us): 1; Mounting Technology: Surface Mount; Code_JEDEC: MO-153; ComponentLink1Description: Manufacturer URL; ComponentLink1URL: http://www.ti.com/; ComponentLink2Description: Datasheet; ComponentLink2URL: http://www.ti.com/general/docs/lit/getliterature.tsp?genericPartNumber=TLV5630&fileType=pdf; ComponentLink3Description: Package Specification; ComponentLink3URL: http://www.ti.com.cn/cn/lit/ml/mpds362/mpds362.pdf
footprint TI-PW20_N (SOP, 20-Leads, Body 6.5x4.4mm, Pitch 0.65mm, IPC Medium Density)
footprint TI-PW20_L (SOP, 20-Leads, Body 6.5x4.4mm, Pitch 0.65mm, IPC High Density)
footprint TI-PW20_M (SOP, 20-Leads, Body 6.5x4.4mm, Pitch 0.65mm, IPC Low Density)
pins: 1 DGND (power) "Digital ground", 2 DIN (in) "Digital serial data input", 3 SCLK (in) "Serial clock input", 4 FS (in) "Frame sync input", 5 ~{PRE} (in) "Preset input", 6 OUTE (out) "DAC output", 7 OUTF (out) "DAC output", 8 OUTG (out) "DAC output", 9 OUTH (out) "DAC output", 10 AGND (power) "Analog ground", 11 AVDD (power) "Analog power supply", 12 OUTA (out) "DAC output", 13 OUTB (out) "DAC output", 14 OUTC (out) "DAC output", 15 OUTD (out) "DAC output", 16 REF (io) "Voltage reference input/output", 17 MODE (in) "DSP/uC mode pin. High = uC mode, NC = DSP mode.", 18 ~{LDAC} (in) "Load DAC. The DAC outputs are only updated, if this signal is low. It is an asynchronous input.", 19 DOUT (out) "Digital serial data output", 20 DVDD (power) "Digital power supply"

## TLV5630IPWG4
designator U?
2.7 to 5.5 V 12-Bit 8-Channel Serial DAC with Internal Reference, -40 to 85 degC, 20-pin SOP (PW20), Green (RoHS & no Sb/Br); Manufacturer: Texas Instruments; PartNumber: TLV5630IPWG4; DAC Channels: 8; DNL(Max)(+/-LSB): 1; INL(Max)(+/-LSB): 6; Interface: Serial SPI; Power Consumption(Typ)(mW): 48; Resolution(Bits): 12; SubFamily: Precision DAC (=<10MSPS); DatasheetVersion: SLAS269F; PackageVersion: 4040064-5/G, 02/2011; PackageReference: PW20; PackageDescription: 20-Pin Plastic Small Outline, Body 6.5 x 4.4 mm, Pitch 0.65 mm; Supplier 1: Digi-Key; Supplier Part Number 1: TLV5630IPWG4-ND; Supplier 2: Farnell; Supplier Part Number 2: 1207302; Supplier 3: Newark; Supplier Part Number 3: 24M8320; Supplier 4: Mouser; Supplier Part Number 4: 595-TLV5630IPWG4; Eco-Plan: Green (RoHS & no Sb/Br); Settling Time(us): 1; Mounting Technology: Surface Mount; Code_JEDEC: MO-153; ComponentLink1Description: Manufacturer URL; ComponentLink1URL: http://www.ti.com/; ComponentLink2Description: Datasheet; ComponentLink2URL: http://www.ti.com/general/docs/lit/getliterature.tsp?genericPartNumber=TLV5630&fileType=pdf; ComponentLink3Description: Package Specification; ComponentLink3URL: http://www.ti.com.cn/cn/lit/ml/mpds362/mpds362.pdf
footprint TI-PW20_N (SOP, 20-Leads, Body 6.5x4.4mm, Pitch 0.65mm, IPC Medium Density)
footprint TI-PW20_L (SOP, 20-Leads, Body 6.5x4.4mm, Pitch 0.65mm, IPC High Density)
footprint TI-PW20_M (SOP, 20-Leads, Body 6.5x4.4mm, Pitch 0.65mm, IPC Low Density)
pins: 1 DGND (power) "Digital ground", 2 DIN (in) "Digital serial data input", 3 SCLK (in) "Serial clock input", 4 FS (in) "Frame sync input", 5 ~{PRE} (in) "Preset input", 6 OUTE (out) "DAC output", 7 OUTF (out) "DAC output", 8 OUTG (out) "DAC output", 9 OUTH (out) "DAC output", 10 AGND (power) "Analog ground", 11 AVDD (power) "Analog power supply", 12 OUTA (out) "DAC output", 13 OUTB (out) "DAC output", 14 OUTC (out) "DAC output", 15 OUTD (out) "DAC output", 16 REF (io) "Voltage reference input/output", 17 MODE (in) "DSP/uC mode pin. High = uC mode, NC = DSP mode.", 18 ~{LDAC} (in) "Load DAC. The DAC outputs are only updated, if this signal is low. It is an asynchronous input.", 19 DOUT (out) "Digital serial data output", 20 DVDD (power) "Digital power supply"

## TLV5630IPWR
designator U?
2.7 to 5.5 V 12-Bit 8-Channel Serial DAC with Internal Reference, -40 to 85 degC, 20-pin SOP (PW20), Green (RoHS & no Sb/Br); Manufacturer: Texas Instruments; PartNumber: TLV5630IPWR; DAC Channels: 8; DNL(Max)(+/-LSB): 1; INL(Max)(+/-LSB): 6; Interface: Serial SPI; Power Consumption(Typ)(mW): 48; Resolution(Bits): 12; SubFamily: Precision DAC (=<10MSPS); DatasheetVersion: SLAS269F; PackageVersion: 4040064-5/G, 02/2011; PackageReference: PW20; PackageDescription: 20-Pin Plastic Small Outline, Body 6.5 x 4.4 mm, Pitch 0.65 mm; Supplier 1: Digi-Key; Supplier Part Number 1: TLV5630IPWR-ND; Supplier 2: Newark; Supplier Part Number 2: 76C8973; Supplier 3: Mouser; Supplier Part Number 3: 595-TLV5630IPWR; Eco-Plan: Green (RoHS & no Sb/Br); Settling Time(us): 1; Mounting Technology: Surface Mount; Code_JEDEC: MO-153; ComponentLink1Description: Manufacturer URL; ComponentLink1URL: http://www.ti.com/; ComponentLink2Description: Datasheet; ComponentLink2URL: http://www.ti.com/general/docs/lit/getliterature.tsp?genericPartNumber=TLV5630&fileType=pdf; ComponentLink3Description: Package Specification; ComponentLink3URL: http://www.ti.com.cn/cn/lit/ml/mpds362/mpds362.pdf
footprint TI-PW20_N (SOP, 20-Leads, Body 6.5x4.4mm, Pitch 0.65mm, IPC Medium Density)
footprint TI-PW20_L (SOP, 20-Leads, Body 6.5x4.4mm, Pitch 0.65mm, IPC High Density)
footprint TI-PW20_M (SOP, 20-Leads, Body 6.5x4.4mm, Pitch 0.65mm, IPC Low Density)
pins: 1 DGND (power) "Digital ground", 2 DIN (in) "Digital serial data input", 3 SCLK (in) "Serial clock input", 4 FS (in) "Frame sync input", 5 ~{PRE} (in) "Preset input", 6 OUTE (out) "DAC output", 7 OUTF (out) "DAC output", 8 OUTG (out) "DAC output", 9 OUTH (out) "DAC output", 10 AGND (power) "Analog ground", 11 AVDD (power) "Analog power supply", 12 OUTA (out) "DAC output", 13 OUTB (out) "DAC output", 14 OUTC (out) "DAC output", 15 OUTD (out) "DAC output", 16 REF (io) "Voltage reference input/output", 17 MODE (in) "DSP/uC mode pin. High = uC mode, NC = DSP mode.", 18 ~{LDAC} (in) "Load DAC. The DAC outputs are only updated, if this signal is low. It is an asynchronous input.", 19 DOUT (out) "Digital serial data output", 20 DVDD (power) "Digital power supply"

## TLV5630IPWRG4
designator U?
2.7 to 5.5 V 12-Bit 8-Channel Serial DAC with Internal Reference, -40 to 85 degC, 20-pin SOP (PW20), Green (RoHS & no Sb/Br); Manufacturer: Texas Instruments; PartNumber: TLV5630IPWRG4; DAC Channels: 8; DNL(Max)(+/-LSB): 1; INL(Max)(+/-LSB): 6; Interface: Serial SPI; Power Consumption(Typ)(mW): 48; Resolution(Bits): 12; SubFamily: Precision DAC (=<10MSPS); DatasheetVersion: SLAS269F; PackageVersion: 4040064-5/G, 02/2011; PackageReference: PW20; PackageDescription: 20-Pin Plastic Small Outline, Body 6.5 x 4.4 mm, Pitch 0.65 mm; Supplier 1: Digi-Key; Supplier Part Number 1: TLV5630IPWRG4-ND; Supplier 2: Mouser; Supplier Part Number 2: 595-TLV5630IPWRG4; Eco-Plan: Green (RoHS & no Sb/Br); Settling Time(us): 1; Mounting Technology: Surface Mount; Code_JEDEC: MO-153; ComponentLink1Description: Manufacturer URL; ComponentLink1URL: http://www.ti.com/; ComponentLink2Description: Datasheet; ComponentLink2URL: http://www.ti.com/general/docs/lit/getliterature.tsp?genericPartNumber=TLV5630&fileType=pdf; ComponentLink3Description: Package Specification; ComponentLink3URL: http://www.ti.com.cn/cn/lit/ml/mpds362/mpds362.pdf
footprint TI-PW20_N (SOP, 20-Leads, Body 6.5x4.4mm, Pitch 0.65mm, IPC Medium Density)
footprint TI-PW20_L (SOP, 20-Leads, Body 6.5x4.4mm, Pitch 0.65mm, IPC High Density)
footprint TI-PW20_M (SOP, 20-Leads, Body 6.5x4.4mm, Pitch 0.65mm, IPC Low Density)
pins: 1 DGND (power) "Digital ground", 2 DIN (in) "Digital serial data input", 3 SCLK (in) "Serial clock input", 4 FS (in) "Frame sync input", 5 ~{PRE} (in) "Preset input", 6 OUTE (out) "DAC output", 7 OUTF (out) "DAC output", 8 OUTG (out) "DAC output", 9 OUTH (out) "DAC output", 10 AGND (power) "Analog ground", 11 AVDD (power) "Analog power supply", 12 OUTA (out) "DAC output", 13 OUTB (out) "DAC output", 14 OUTC (out) "DAC output", 15 OUTD (out) "DAC output", 16 REF (io) "Voltage reference input/output", 17 MODE (in) "DSP/uC mode pin. High = uC mode, NC = DSP mode.", 18 ~{LDAC} (in) "Load DAC. The DAC outputs are only updated, if this signal is low. It is an asynchronous input.", 19 DOUT (out) "Digital serial data output", 20 DVDD (power) "Digital power supply"

## TLV5631IDW
designator U?
2.7 to 5.5 V 10-Bit 8-Channel Serial DAC with Internal Reference, -40 to 85 degC, 20-pin SOIC (DW20), Green (RoHS & no Sb/Br); Manufacturer: Texas Instruments; PartNumber: TLV5631IDW; DAC Channels: 8; DNL(Max)(+/-LSB): 1; INL(Max)(+/-LSB): 2; Interface: Serial SPI; Power Consumption(Typ)(mW): 18; Resolution(Bits): 10; SubFamily: Precision DAC (=<10MSPS); DatasheetVersion: SLAS269F; PackageVersion: 4040000-4/G, 01/2011; PackageReference: DW20; PackageDescription: 20-Pin Plastic Small Outline, Body 12.8 x 7.5 mm, Pitch 1.27 mm; Supplier 1: Digi-Key; Supplier Part Number 1: 296-3067-5-ND; Supplier 2: Farnell; Supplier Part Number 2: 8455791; Supplier 3: Mouser; Supplier Part Number 3: 595-TLV5631IDW; Eco-Plan: Green (RoHS & no Sb/Br); Settling Time(us): 1; Mounting Technology: Surface Mount; Code_JEDEC: MO-013; ComponentLink1Description: Manufacturer URL; ComponentLink1URL: http://www.ti.com/; ComponentLink2Description: Datasheet; ComponentLink2URL: http://www.ti.com/general/docs/lit/getliterature.tsp?genericPartNumber=TLV5631&fileType=pdf; ComponentLink3Description: Package Specification; ComponentLink3URL: http://www.ti.com/lit/ml/mpds173a/mpds173a.pdf
footprint TI-DW20_N (SOIC, 20-Leads, Body 12.8x7.5mm, Pitch 1.27mm, IPC Medium Density)
footprint TI-DW20_L (SOIC, 20-Leads, Body 12.8x7.5mm, Pitch 1.27mm, IPC High Density)
footprint TI-DW20_M (SOIC, 20-Leads, Body 12.8x7.5mm, Pitch 1.27mm, IPC Low Density)
pins: 1 DGND (power) "Digital ground", 2 DIN (in) "Digital serial data input", 3 SCLK (in) "Serial clock input", 4 FS (in) "Frame sync input", 5 ~{PRE} (in) "Preset input", 6 OUTE (out) "DAC output", 7 OUTF (out) "DAC output", 8 OUTG (out) "DAC output", 9 OUTH (out) "DAC output", 10 AGND (power) "Analog ground", 11 AVDD (power) "Analog power supply", 12 OUTA (out) "DAC output", 13 OUTB (out) "DAC output", 14 OUTC (out) "DAC output", 15 OUTD (out) "DAC output", 16 REF (io) "Voltage reference input/output", 17 MODE (in) "DSP/uC mode pin. High = uC mode, NC = DSP mode.", 18 ~{LDAC} (in) "Load DAC. The DAC outputs are only updated, if this signal is low. It is an asynchronous input.", 19 DOUT (out) "Digital serial data output", 20 DVDD (power) "Digital power supply"

## TLV5631IDWG4
designator U?
2.7 to 5.5 V 10-Bit 8-Channel Serial DAC with Internal Reference, -40 to 85 degC, 20-pin SOIC (DW20), Green (RoHS & no Sb/Br); Manufacturer: Texas Instruments; PartNumber: TLV5631IDWG4; DAC Channels: 8; DNL(Max)(+/-LSB): 1; INL(Max)(+/-LSB): 2; Interface: Serial SPI; Power Consumption(Typ)(mW): 18; Resolution(Bits): 10; SubFamily: Precision DAC (=<10MSPS); DatasheetVersion: SLAS269F; PackageVersion: 4040000-4/G, 01/2011; PackageReference: DW20; PackageDescription: 20-Pin Plastic Small Outline, Body 12.8 x 7.5 mm, Pitch 1.27 mm; Supplier 1: Digi-Key; Supplier Part Number 1: TLV5631IDWG4-ND; Supplier 2: Mouser; Supplier Part Number 2: 595-TLV5631IDWG4; Eco-Plan: Green (RoHS & no Sb/Br); Settling Time(us): 1; Mounting Technology: Surface Mount; Code_JEDEC: MO-013; ComponentLink1Description: Manufacturer URL; ComponentLink1URL: http://www.ti.com/; ComponentLink2Description: Datasheet; ComponentLink2URL: http://www.ti.com/general/docs/lit/getliterature.tsp?genericPartNumber=TLV5631&fileType=pdf; ComponentLink3Description: Package Specification; ComponentLink3URL: http://www.ti.com/lit/ml/mpds173a/mpds173a.pdf
footprint TI-DW20_N (SOIC, 20-Leads, Body 12.8x7.5mm, Pitch 1.27mm, IPC Medium Density)
footprint TI-DW20_L (SOIC, 20-Leads, Body 12.8x7.5mm, Pitch 1.27mm, IPC High Density)
footprint TI-DW20_M (SOIC, 20-Leads, Body 12.8x7.5mm, Pitch 1.27mm, IPC Low Density)
pins: 1 DGND (power) "Digital ground", 2 DIN (in) "Digital serial data input", 3 SCLK (in) "Serial clock input", 4 FS (in) "Frame sync input", 5 ~{PRE} (in) "Preset input", 6 OUTE (out) "DAC output", 7 OUTF (out) "DAC output", 8 OUTG (out) "DAC output", 9 OUTH (out) "DAC output", 10 AGND (power) "Analog ground", 11 AVDD (power) "Analog power supply", 12 OUTA (out) "DAC output", 13 OUTB (out) "DAC output", 14 OUTC (out) "DAC output", 15 OUTD (out) "DAC output", 16 REF (io) "Voltage reference input/output", 17 MODE (in) "DSP/uC mode pin. High = uC mode, NC = DSP mode.", 18 ~{LDAC} (in) "Load DAC. The DAC outputs are only updated, if this signal is low. It is an asynchronous input.", 19 DOUT (out) "Digital serial data output", 20 DVDD (power) "Digital power supply"